# EAGLE library part 43045-122 (library Connector)
12 POS MICROFIT 3.0 VERT TH HDR 45045122x Drawing <http://www.molex.com/pdm_docs/sd/430451227_sd.pdf> Molex Micro-Fit Connector Family <http://www.literature.molex.com/SQLImages/kelmscott/Molex/PDF_Images/987650-5984.pdf>
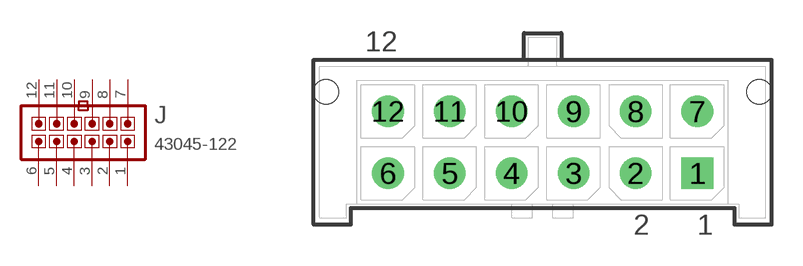
[diagram p11: symbol with the pads of MOLEX_43045122; footprint MOLEX_43045122]

Designator prefix J

## 43045-1227 (DATASHEET: http://www.molex.com/pdm_docs/sd/430451227_sd.pdf; DESC: MICROFIT 3.0 VERT TH HDR DR TIN; FINISH: TIN; MANF: MOLEX; MFPN: 0430451227; PARTNO: 29-100911-00; STATUS: Active), 43045-1228 (DATASHEET: http://www.molex.com/pdm_docs/sd/430451227_sd.pdf; DESC: MICROFIT 3.0 VERT TH HDR DR GOLD; FINISH: GOLD; MANF: MOLEX; MFPN: 0430451228; PARTNO: NEW; STATUS: Active)  [MOLEX_43045122]
1  1  pas
2  2  pas
3  3  pas
4  4  pas
5  5  pas
6  6  pas
7  7  pas
8  8  pas
9  9  pas
10  10  pas
11  11  pas
12  12  pas

## Footprint MOLEX_43045122 (pad centres in mm)
12 POS MICROFIT 3.0 VERT TH HDR 45045122x Drawing <http://www.molex.com/pdm_docs/sd/430451227_sd.pdf> Molex Micro-Fit Connector Family <http://www.literature.molex.com/SQLImages/kelmscott/Molex/PDF_Images/987650-5984.pdf>
drill 1.02 square: 1 0,0
drill 1.02: 2 -3,0; 3 -6,0; 4 -9,0; 5 -12,0; 6 -15,0; 7 0,3; 8 -3,3; 9 -6,3; 10 -9,3; 11 -12,3; 12 -15,3
hole 1.2 at 3,3.94
hole 1.2 at -18,3.94